# EAGLE library part AD8495 (library IntegerLabs)
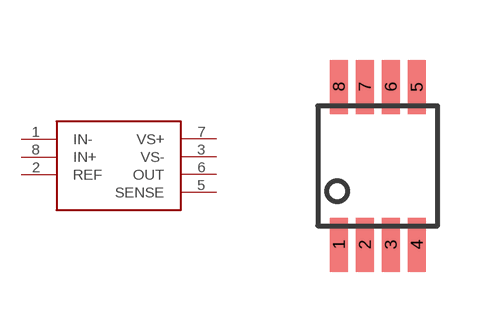
[diagram p22: symbol with the pads of MSOP-8; footprint MSOP-8]

Designator prefix -

## AD8495  [MSOP-8]
1  IN-
2  REF
3  VS-
5  SENSE
6  OUT
7  VS+
8  IN+

## Footprint MSOP-8 (pad centres in mm)
smd 0.45 x 1.35: 1 -0.975,-1.975; 2 -0.325,-1.975; 3 0.325,-1.975; 4 0.975,-1.975; 5 0.975,1.975; 6 0.325,1.975; 7 -0.325,1.975; 8 -0.975,1.975